# Altium footprint library PCB1.PcbLib: 16 footprints
Each footprint in its own frame and in the unit in brackets; x right, y up, seen from the top. Pads: shape width x height; smd on the part's side, far side on the other; paste and mask are expansions set on the pad; w line width, h text height; cw(c..) or ccw(c..) is an arc to the next point about the centre after c.
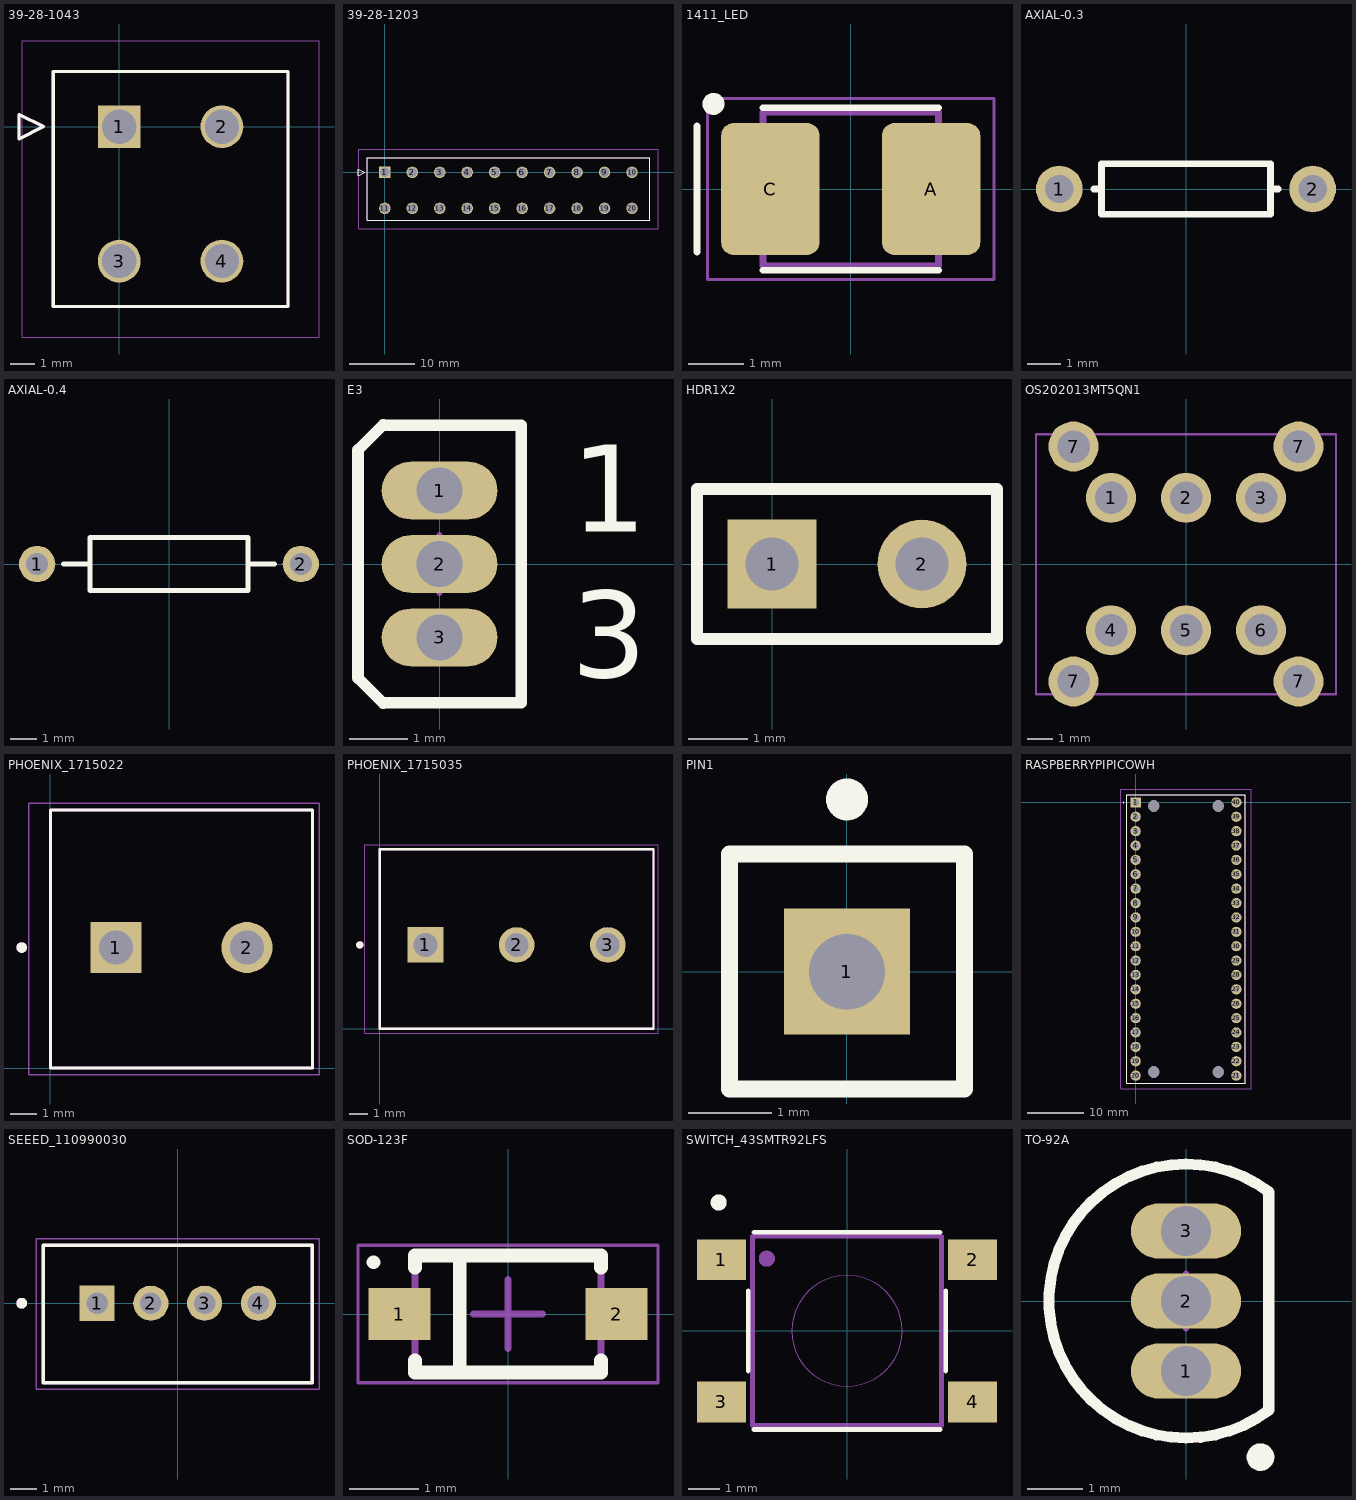
[diagram p0: the footprints below, top view; thin cyan lines are the x and y axes]

## 39-28-1043 [mm]
pads (4):
  rect 1.75x1.75 hole 1.4: 1(0,0)
  round 1.75 hole 1.4: 2(4.2,0) 3(0,-5.5) 4(4.2,-5.5)
Top Overlay:
  lines w0.127: -4.1,-0.5 -4.1,0.5 -3.1,0 -4.1,-0.5 ; -2.7,-7.35 6.9,-7.35 6.9,2.25 -2.7,2.25 -2.7,-7.35
Mechanical 13:
  lines w0.127: -4.1,-0.5 -4.1,0.5 -3.1,0 -4.1,-0.5 ; -2.7,-7.35 6.9,-7.35 6.9,2.25 -2.7,2.25 -2.7,-7.35
Mechanical 15:
  lines w0.05: -3.97,-8.62 8.17,-8.62 8.17,3.52 -3.97,3.52 -3.97,-8.62
3D body "39-28-1043.stp": height 12.76, standoff -3.54, extent -3.11,-8.74 7.29,2.26

## 39-28-1203 [mm]
pads (20):
  rect 1.75x1.75 hole 1.4: 1(0,0)
  round 1.75 hole 1.4: 2(4.2,0) 3(8.4,0) 4(12.6,0) 5(16.8,0) 6(21,0) 7(25.2,0) 8(29.4,0) 9(33.6,0) 10(37.8,0) 11(0,-5.5) 12(4.2,-5.5) 13(8.4,-5.5) 14(12.6,-5.5) 15(16.8,-5.5) 16(21,-5.5) 17(25.2,-5.5) 18(29.4,-5.5) 19(33.6,-5.5) 20(37.8,-5.5)
Top Overlay:
  lines w0.127: -4.1,-0.5 -4.1,0.5 -3.1,0 -4.1,-0.5 ; -2.7,-7.35 40.5,-7.35 40.5,2.25 -2.7,2.25 -2.7,-7.35
Mechanical 13:
  lines w0.127: -4.1,-0.5 -4.1,0.5 -3.1,0 -4.1,-0.5 ; -2.7,-7.35 40.5,-7.35 40.5,2.25 -2.7,2.25 -2.7,-7.35
Mechanical 15:
  lines w0.05: -3.97,-8.62 41.77,-8.62 41.77,3.52 -3.97,3.52 -3.97,-8.62
3D body "39-28-1203.stp": height 12.68, standoff -3.62, extent -3.16,-7.72 40.84,3.28

## 1411_LED [mm] "1411 Footprint for LEDs"
pads (2):
  rrect25% 1.79x2.4 smd: A(1.465,0) C(-1.465,0)
Top Overlay:
  circle w0.2: c-2.5,1.55 r0.1
  lines w0.127: -2.8,-1.15 -2.8,1.15 ; -1.6,-1.48 1.6,-1.48 ; -1.6,1.48 1.6,1.48
Mechanical 13:
  lines w0.127: -1.6,-1.4 -1.6,1.4 1.6,1.4 1.6,-1.4 -1.6,-1.4
Mechanical 15:
  lines w0.05: -2.61,-1.65 -2.61,1.65 2.61,1.65 2.61,-1.65 -2.61,-1.65

## AXIAL-0.3 [mm] "Axial Device, Thru-Hole; 2 Leads; 0.3 in Pin Spacing"
height 1.524
pads (2):
  round 1.4 hole 0.85: 1(-3.81,0) 2(3.81,0)
Top Overlay:
  lines w0.2: -2.769,0 -2.54,0 ; 2.769,0 2.54,0 ; 2.54,0 2.54,0.762 -2.54,0.762 -2.54,-0.762 2.54,-0.762 2.54,0

## AXIAL-0.4 [mm] "Axial Device, Thru-Hole; 2 Leads; 0.4 in Pin Spacing"
height 2.032
pads (2):
  round 1.4 hole 0.85: 1(-5.08,0) 2(5.08,0)
Top Overlay:
  lines w0.2: -4.064,0 -3.048,0 ; 3.048,0 4.064,0 ; -3.048,-1.016 -3.048,1.016 3.048,1.016 3.048,-1.016 -3.048,-1.016

## E3 [mm] "TO, Flat Index; 3 In-Line, Axial Leads; Body Dia. 4.6mm; Lead Dia. 0.5 mm (max)"
height 4.01
pads (3):
  oval 2x1 hole 0.8: 1(0,1.27) 2(0,0) 3(0,-1.27)
Top Overlay:
  lines w0.2: -0.97,-2.41 -1.41,-1.97 -1.41,1.97 -0.97,2.41 ; -0.97,-2.4 1.41,-2.4 1.41,2.4 -0.97,2.4
  text "1" at 2.275,0.555 h1.5
  text "3" at 2.275,-1.963 h1.5
Mechanical 15:
  lines w0.1: -0.5,0 0.5,0 ; 0,-0.5 0,0.5

## HDR1X2 [mm] "Connector; Header; 2 Position"
pads (2):
  rect 1.5x1.5 hole 0.9: 1(0,0)
  round 1.5 hole 0.9: 2(2.54,0)
Top Overlay:
  lines w0.2: -1.27,-1.27 3.81,-1.27 3.81,1.27 -1.27,1.27 -1.27,-1.27

## OS202013MT5QN1 [mm] "Toggle Switch"
pads (10):
  round 2 hole 1.3: 1(-3,2.65) 2(0,2.65) 3(3,2.65) 4(-3,-2.65) 5(0,-2.65) 6(3,-2.65) 7(-4.5,-4.7) 7(-4.5,4.7) 7(4.5,-4.7) 7(4.5,4.7)
Mechanical 15:
  lines w0.1: -6,-5.2 6,-5.2 6,5.2 -6,5.2 -6,-5.2

## PHOENIX_1715022 [mm]
height 13.9
pads (2):
  rect 1.95x1.95 / inner round 1.95 / far side rect 1.95x1.95 hole 1.3: 1(2.5,4.6)
  round 1.95 hole 1.3: 2(7.5,4.6)
Top Overlay:
  circle w0.2: c-1.1,4.6 r0.1
  lines w0.127: 0,0 0,9.85 10,9.85 10,0 0,0
Mechanical 13:
  circle w0.2: c-1.1,4.6 r0.1
  lines w0.127: 0,0 0,9.85 10,9.85 10,0 0,0
Mechanical 15:
  lines w0.05: -0.82,-0.25 -0.82,10.1 10.25,10.1 10.25,-0.25 -0.82,-0.25
3D body "step_temp.STEP": height 13.9, standoff -3.7, extent -0.381,0.028 10.189,9.878

## PHOENIX_1715035 [mm]
pads (3):
  rect 1.95x1.95 hole 1.3: 1(2.5,4.6)
  round 1.95 hole 1.3: 2(7.5,4.6) 3(12.5,4.6)
Top Overlay:
  circle w0.2: c-1.1,4.6 r0.1
  lines w0.127: 0,0 15,0 15,9.85 0,9.85 0,0
Mechanical 4:
  circle w0.2: c-1.1,4.6 r0.1
  circle w0.2: c-1.1,4.6 r0.1
  lines w0.127: 0,0 15,0 ; 0,0 0,9.85 ; 0,0 15,0 ; 0,0 0,9.85 ; 0,9.85 15,9.85 ; 0,9.85 15,9.85 ; 15,0 15,9.85 ; 15,0 15,9.85
Mechanical 16:
  lines w0.05: -0.82,-0.25 15.25,-0.25 15.25,10.1 -0.82,10.1 -0.82,-0.25

## PIN1 [mm] "Connector; Plug"
pads (1):
  rect 1.5x1.5 hole 0.9: 1(0,0)
Top Overlay:
  circle w0.25: c0,2.05 r0.125
  lines w0.2: -1.4,-1.4 -1.4,1.4 1.4,1.4 1.4,-1.4 -1.4,-1.4

## RASPBERRYPIPICOWH [mm]
pads (44):
  rect 1.8x1.8 hole 1.2: 1(0,0)
  round 1.8 hole 1.2: 2(0,-2.54) 3(0,-5.08) 4(0,-7.62) 5(0,-10.16) 6(0,-12.7) 7(0,-15.24) 8(0,-17.78) 9(0,-20.32) 10(0,-22.86) 11(0,-25.4) 12(0,-27.94) 13(0,-30.48) 14(0,-33.02) 15(0,-35.56) 16(0,-38.1) 17(0,-40.64) 18(0,-43.18) 19(0,-45.72) 20(0,-48.26) 21(17.78,-48.26) 22(17.78,-45.72) 23(17.78,-43.18) 24(17.78,-40.64) 25(17.78,-38.1) 26(17.78,-35.56) 27(17.78,-33.02) 28(17.78,-30.48) 29(17.78,-27.94) 30(17.78,-25.4) 31(17.78,-22.86) 32(17.78,-20.32) 33(17.78,-17.78) 34(17.78,-15.24) 35(17.78,-12.7) 36(17.78,-10.16) 37(17.78,-7.62) 38(17.78,-5.08) 39(17.78,-2.54) 40(17.78,0)
  round 1.05 hole 2.1 unplated: MH1(3.19,-0.63) MH2(3.19,-47.63) MH3(14.59,-47.63) MH4(14.59,-0.63)
Top Overlay:
  lines w0.1: -2.2,0 ccw(c-2.15,0) -2.1,0 ccw(c-2.15,0) -2.2,0
  lines w0.2: -1.61,-49.63 19.39,-49.63 19.39,1.37 -1.61,1.37 -1.61,-49.63
Mechanical 13:
  lines w0.1: -1.61,-49.63 19.39,-49.63 19.39,1.37 -1.61,1.37 -1.61,-49.63
Mechanical 15:
  lines w0.1: -2.61,-50.63 20.39,-50.63 20.39,2.37 -2.61,2.37 -2.61,-50.63
3D body "RASPBERRY_PI_PICO_WH.stp": height 4.1, standoff -5, extent -1.61,-49.63 19.39,1.37

## SEEED_110990030 [mm]
pads (4):
  rect 1.308x1.308 hole 0.8: 1(-3,0)
  round 1.308 hole 0.8: 2(-1,0) 3(1,0) 4(3,0)
Top Overlay:
  circle w0.2: c-5.8,0 r0.1
  lines w0.127: -5,-2.95 -5,2.15 5,2.15 5,-2.95 -5,-2.95
Mechanical 13:
  circle w0.2: c-5.8,0 r0.1
  lines w0.127: -5,-2.95 -5,2.15 5,2.15 5,-2.95 -5,-2.95
Mechanical 15:
  lines w0.05: -5.25,-3.2 -5.25,2.4 5.25,2.4 5.25,-3.2 -5.25,-3.2

## SOD-123F [mm] "SOD-123F, 2-Leads, Body 1.60x3.50mm, IPC Medium Density"
height 1.2
pads (2):
  rect 0.9x0.75 smd: 1(-1.575,0) 2(1.575,0)
Top Overlay:
  lines w0.2: -1.35,-0.675 -1.35,-0.85 1.35,-0.85 1.35,-0.675 ; -1.35,0.675 -1.35,0.85 1.35,0.85 1.35,0.675 ; -0.7,-0.8 -0.7,0.8 ; -1.95,0.75 -1.95,0.751
Mechanical 13:
  lines w0.1: -1.35,-0.85 -1.35,0.85 1.35,0.85 1.35,-0.85 -1.35,-0.85
Mechanical 15:
  lines w0.05: -2.175,-1 -2.175,1 2.175,1 2.175,-1 -2.175,-1
  lines w0.1: -0.5,0 0.5,0 ; 0,-0.5 0,0.5
3D body "SOD-123F.step": height 1.2, standoff 0, extent -1.75,-0.85 1.75,0.85

## SWITCH_43SMTR92LFS [mm]
pads (4):
  rect 1.549x1.295 smd: 1(-3.975,2.25) 2(3.975,2.25) 3(-3.975,-2.25) 4(3.975,-2.25)
Top Overlay:
  lines w0.152: -3.124,-1.27 -3.124,1.27 ; -2.946,-3.124 2.946,-3.124 ; -2.946,3.124 2.946,3.124 ; 3.124,-1.27 3.124,1.27
  lines w0.254: -4.191,4.064 ccw(c-4.064,4.064) -3.937,4.064 ccw(c-4.064,4.064) -4.191,4.064
Bottom Overlay:
  lines w0.254: -4.191,4.064 ccw(c-4.064,4.064) -3.937,4.064 ccw(c-4.064,4.064) -4.191,4.064
Mechanical 13:
  lines w0: -1.753,0 ccw(c0,0) 1.753,0 ccw(c0,0) -1.753,0
  lines w0.152: -2.997,-2.997 2.997,-2.997 2.997,2.997 -2.997,2.997 -2.997,-2.997
  lines w0.254: -2.667,2.286 ccw(c-2.54,2.286) -2.413,2.286 ccw(c-2.54,2.286) -2.667,2.286

## TO-92A [mm] "TO, Flat Index; 3 In-Line, Axial Leads; Body Dia. 4.5mm; Leads 0.51 x 0.48 mm (max)"
height 6.86
pads (3):
  oval 2x1 hole 0.9: 1(0,-1.27) 2(0,0) 3(0,1.27)
Top Overlay:
  circle w0.25: c1.35,-2.83 r0.125
  lines w0.2: 1.5,-1.98 cw(c0,0) 1.5,1.98 1.5,-1.98
Mechanical 13:
  lines w0.1: 1.5,-1.98 cw(c0,0) 1.5,1.98 1.5,-1.98
Mechanical 15:
  lines w0.1: -0.5,0 0.5,0 ; 0,-0.5 0,0.5
3D body: height 6.86, standoff 2.2, extent -2.485,-2.495 1.501,2.495